# Altium schematic symbol library Header 5.Schlib: 1 symbol
Pins are listed as number, name and electrical type; pins without a type are passive.

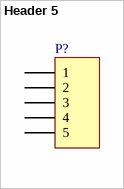
[diagram p0: symbol Header 5]

## Header 5
designator P?
Header, 5-Pin
pins: 1, 2, 3, 4, 5